# Altium footprint library ecoVENTV_v1.1.PcbLib: 36 footprints (part 2 of 3)
Each footprint in its own frame and in the unit in brackets; x right, y up, seen from the top. Pads: shape width x height; smd on the part's side, far side on the other; paste and mask are expansions set on the pad; w line width, h text height; cw(c..) or ccw(c..) is an arc to the next point about the centre after c.
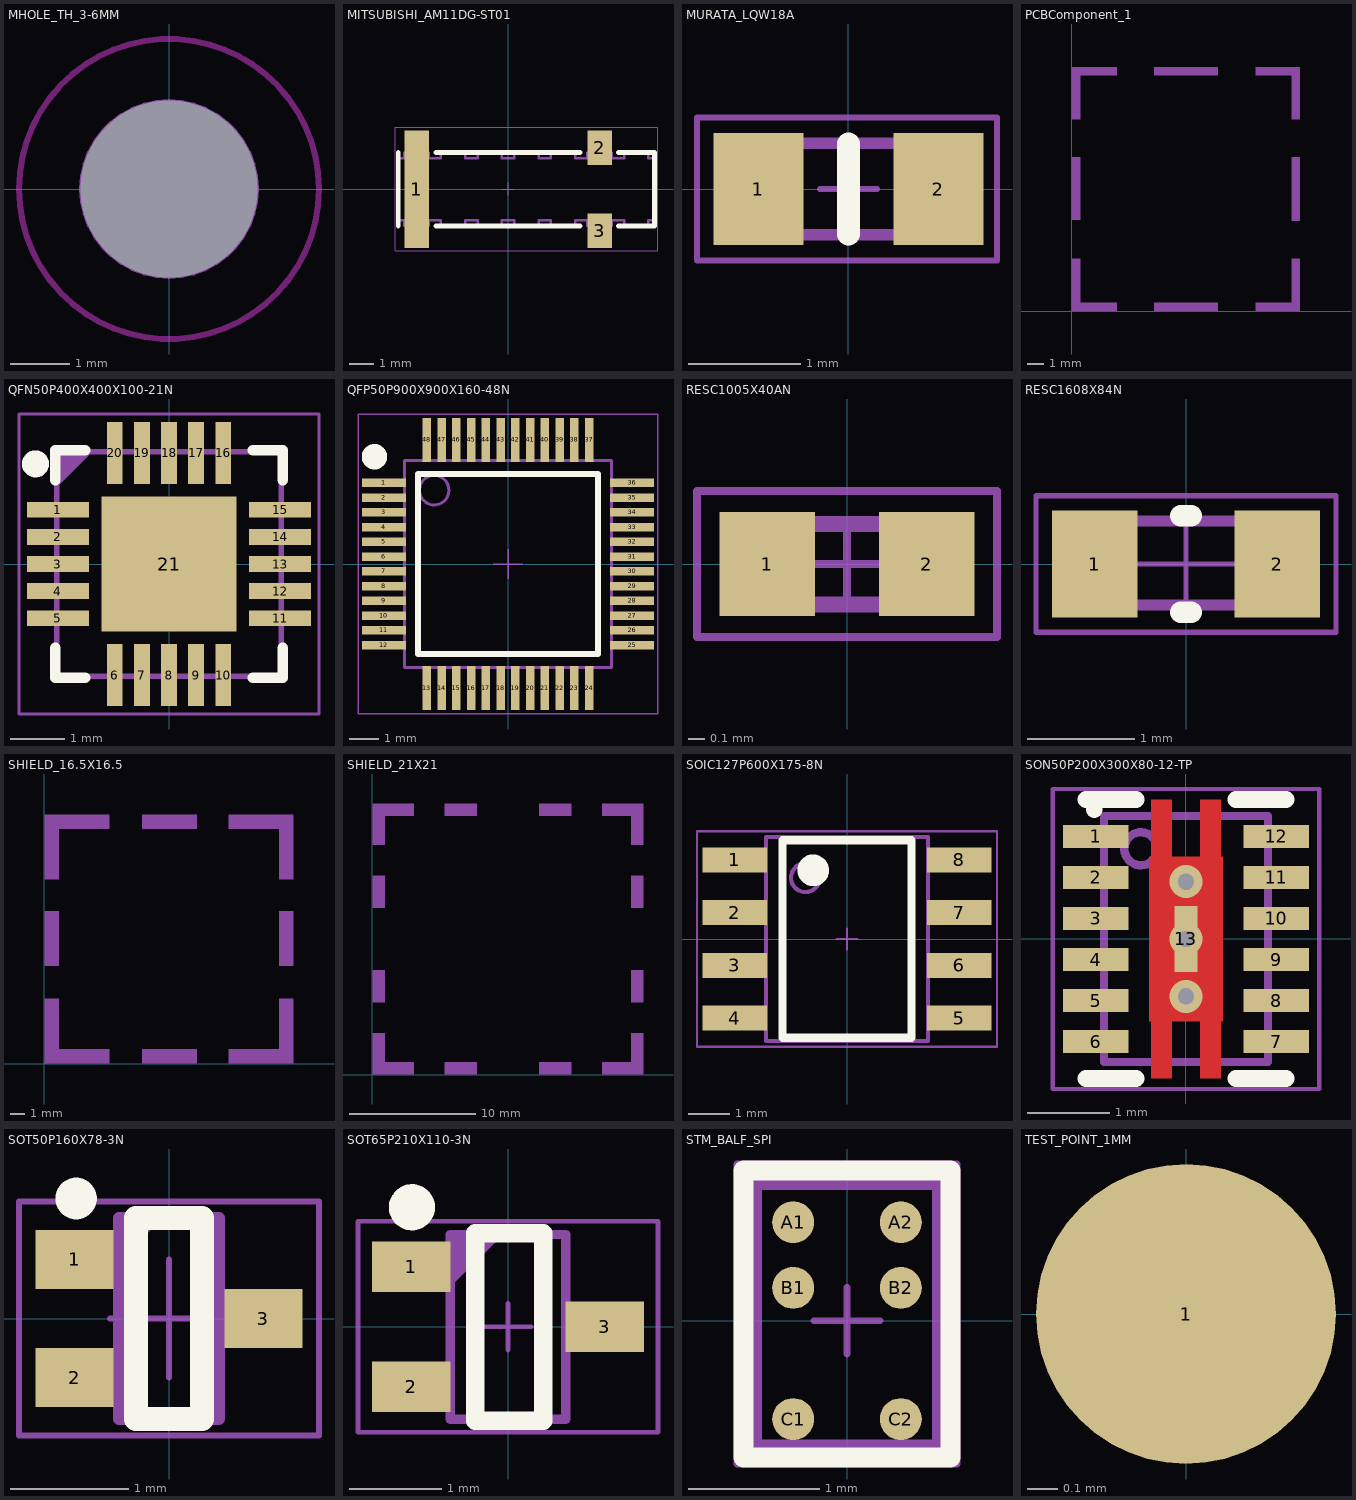
[diagram p1: the footprints below, top view; thin cyan lines are the x and y axes]

## MHOLE_TH_3-6MM [mm]
pads (1):
  round 0 hole 3 unplated mask+0.051: ""(0,0)
Keep-Out Layer:
  circle w0.102: c0,0 r2.545
Mechanical 1:
  circle w0.102: c0,0 r1.473
  text ".Designator" at -0.533,-0.254 h0.51

## MITSUBISHI_AM11DG-ST01 [mm]
height 0.9
pads (3):
  rect 1x4.8 smd mask+0.051: 1(-3.75,0)
  rect 1x1.4 smd mask+0.051: 2(3.75,1.7) 3(3.75,-1.7)
Top Overlay:
  lines w0.203: -4.5,-1.5 -4.5,1.5 ; -2.946,-1.5 2.946,-1.5 ; -2.946,1.5 2.946,1.5 ; 4.521,-1.5 6,-1.5 6,1.5 4.521,1.5
Mechanical 1:
  lines w0.102: -4.5,-1.275 -4.25,-1.275 -4.25,-1.5 -3.25,-1.5 -3.25,-1.275 -2.75,-1.275 -2.75,-1.5 -1.75,-1.5 -1.75,-1.275 -1.25,-1.275 -1.25,-1.5 -0.25,-1.5 -0.25,-1.275 0.25,-1.275 0.25,-1.5 1.25,-1.5 1.25,-1.275 1.75,-1.275 1.75,-1.5 2.75,-1.5 2.75,-1.275 3.25,-1.275 3.25,-1.5 4.25,-1.5 4.25,-1.275 4.75,-1.275 4.75,-1.5 5.75,-1.5 5.75,-1.275 6,-1.275 6,1.275 5.75,1.275 5.75,1.5 4.75,1.5 4.75,1.275 4.25,1.275 4.25,1.5 3.25,1.5 3.25,1.275 2.75,1.275 2.75,1.5 1.75,1.5 1.75,1.275 1.25,1.275 1.25,1.5 0.25,1.5 0.25,1.275 -0.25,1.275 -0.25,1.5 -1.25,1.5 -1.25,1.275 -1.75,1.275 -1.75,1.5 -2.75,1.5 -2.75,1.275 -3.25,1.275 -3.25,1.5 -4.25,1.5 -4.25,1.275 -4.5,1.275 -4.5,-1.275
  text ".Designator" at 0,-0.152 h0.51
Mechanical 15:
  lines w0.051: -0.254,0 0.254,0 ; 0,-0.254 0,0.254 ; -4.627,-2.519 -4.627,2.535 6.143,2.535 6.143,-2.519 -4.627,-2.519
3D body: height 0.6, standoff 0.2, extent -4.5,-1.275 6,1.275
3D body: height 0.8, standoff 0, extent 3.25,-1.5 5.75,1.5
3D body: height 0.8, standoff 0, extent 1.75,-1.5 4.25,1.5
3D body: height 0.8, standoff 0, extent 0.25,-1.5 2.75,1.5
3D body: height 0.8, standoff 0, extent -1.25,-1.5 1.25,1.5
3D body: height 0.8, standoff 0, extent -2.75,-1.5 -0.25,1.5
3D body: height 0.8, standoff 0, extent -4.25,-1.5 -1.75,1.5

## MURATA_LQW18A [mm]
height 1
pads (2):
  rect 0.8x1 smd mask+0.051: 1(-0.8,0) 2(0.8,0)
Top Overlay:
  lines w0.203: 0,-0.4 0,0.4
Mechanical 1:
  lines w0.102: -0.79,-0.406 -0.79,0.406 0.79,0.406 0.79,-0.406 -0.79,-0.406
  text ".Designator" at -0.66,-0.229 h0.51
Mechanical 15:
  lines w0.051: -0.254,0 0.254,0 ; 0,-0.254 0,0.254 ; -1.346,-0.635 -1.346,0.635 1.321,0.635 1.321,-0.635 -1.346,-0.635
3D body: height 0.81, standoff 0, extent -0.8,-0.45 0.8,0.45

## PCBComponent_1 [mm]
Mechanical 5:
  region: 2.66,0 2.66,0.5 0,0.5 0,0
  rectangle: 13.01,0 13.51,3.13
  rectangle: 13.01,5.33 13.51,9.13
  rectangle: 13.01,11.33 13.51,14.46
  region: 2.66,13.96 2.66,14.46 0,14.46 0,13.96
  region: 8.66,13.96 8.66,14.46 4.86,14.46 4.86,13.96
  region: 13.51,13.96 13.51,14.46 10.86,14.46 10.86,13.96
  rectangle: 0,11.33 0.5,14.46
  rectangle: 0,5.388 0.5,9.13
  region: 13.51,0 13.51,0.5 10.86,0.5 10.86,0
  region: 8.66,0 8.66,0.5 4.86,0.5 4.86,0
  rectangle: 0,0 0.5,3.12

## QFN50P400X400X100-21N [mm]
pads (21):
  rect 1.15x0.29 smd mask+0.051: 1(-2.05,1) 2(-2.05,0.5) 3(-2.05,0) 4(-2.05,-0.5) 5(-2.05,-1) 11(2.05,-1) 12(2.05,-0.5) 13(2.05,0) 14(2.05,0.5) 15(2.05,1)
  rect 0.29x1.15 smd mask+0.051: 6(-1,-2.05) 7(-0.5,-2.05) 8(0,-2.05) 9(0.5,-2.05) 10(1,-2.05) 16(1,2.05) 17(0.5,2.05) 18(0,2.05) 19(-0.5,2.05) 20(-1,2.05)
  rect 2.5x2.5 smd mask+0.051: 21(0,0)
Top Overlay:
  circle w0.25: c-2.464,1.849 r0.125
  lines w0.2: -2.1,-1.55 -2.1,-2.1 -1.55,-2.1 ; -2.1,1.55 -2.1,2.1 -1.55,2.1 ; 1.55,-2.1 2.1,-2.1 2.1,-1.55 ; 1.55,2.1 2.1,2.1 2.1,1.55
Top Paste:
  region: -0.75,0.75 0.75,0.75 0.75,-0.75 -0.75,-0.75
Mechanical 1:
  lines w0.102: -2.075,1.475 -1.475,2.075 ; -2.075,1.575 -1.575,2.075 ; -2.075,1.675 -1.675,2.075 ; -2.075,1.775 -1.775,2.075 ; -2.075,1.875 -1.875,2.075 ; -2.075,1.975 -1.975,2.075 ; -2.075,-2.075 -2.075,2.075 2.075,2.075 2.075,-2.075 -2.075,-2.075
  text ".Designator" at -0.556,-0.157 h0.51
Mechanical 15:
  lines w0.05: -0.5,0 0.5,0 ; 0,-0.5 0,0.5 ; -2.769,-2.769 -2.769,2.769 2.769,2.769 2.769,-2.769 -2.769,-2.769
3D body: height 0.78, standoff -0.02, extent -2.01,-2.01 2.01,2.01

## QFP50P900X900X160-48N [mm]
pads (48):
  rect 1.5x0.29 smd mask+0.051: 1(-4.2,2.75) 2(-4.2,2.25) 3(-4.2,1.75) 4(-4.2,1.25) 5(-4.2,0.75) 6(-4.2,0.25) 7(-4.2,-0.25) 8(-4.2,-0.75) 9(-4.2,-1.25) 10(-4.2,-1.75) 11(-4.2,-2.25) 12(-4.2,-2.75) 25(4.2,-2.75) 26(4.2,-2.25) 27(4.2,-1.75) 28(4.2,-1.25) 29(4.2,-0.75) 30(4.2,-0.25) 31(4.2,0.25) 32(4.2,0.75) 33(4.2,1.25) 34(4.2,1.75) 35(4.2,2.25) 36(4.2,2.75)
  rect 0.29x1.5 smd mask+0.051: 13(-2.75,-4.2) 14(-2.25,-4.2) 15(-1.75,-4.2) 16(-1.25,-4.2) 17(-0.75,-4.2) 18(-0.25,-4.2) 19(0.25,-4.2) 20(0.75,-4.2) 21(1.25,-4.2) 22(1.75,-4.2) 23(2.25,-4.2) 24(2.75,-4.2) 37(2.75,4.2) 38(2.25,4.2) 39(1.75,4.2) 40(1.25,4.2) 41(0.75,4.2) 42(0.25,4.2) 43(-0.25,4.2) 44(-0.75,4.2) 45(-1.25,4.2) 46(-1.75,4.2) 47(-2.25,4.2) 48(-2.75,4.2)
Top Overlay:
  circle w0.508: c-4.521,3.632 r0.177
  lines w0.2: -3.05,-3.05 3.05,-3.05 3.05,3.05 -3.05,3.05 -3.05,-3.05
Mechanical 1:
  circle w0.102: c-2.5,2.5 r0.5
  lines w0.102: -3.5,-3.5 3.5,-3.5 3.5,3.5 -3.5,3.5 -3.5,-3.5
  text ".Designator" at -0.508,-0.076 h0.51
Mechanical 15:
  lines w0.05: -0.5,0 0.5,0 ; 0,-0.5 0,0.5 ; -5.08,-5.08 5.08,-5.08 5.08,5.08 -5.08,5.08 -5.08,-5.08
3D body: height 1.5, standoff 0, extent -4.5,-4.5 4.5,4.5

## RESC1005X40AN [mm]
pads (2):
  rect 0.6x0.65 smd mask+0.051: 1(-0.5,0) 2(0.5,0)
Mechanical 1:
  lines w0.102: -0.5,-0.254 -0.5,0.25 0.5,0.25 0.5,-0.254 -0.5,-0.254
  text ".Designator" at -0.356,-0.102 h0.25
Mechanical 15:
  lines w0.051: -0.25,0 0.25,0 ; 0,-0.25 0,0.25 ; -0.94,-0.457 -0.94,0.457 0.94,0.457 0.94,-0.457 -0.94,-0.457
3D body: height 0.35, standoff 0, extent -0.5,-0.25 0.5,0.25

## RESC1608X84N [mm]
pads (2):
  rect 0.8x1 smd mask+0.051: 1(-0.85,0) 2(0.85,0)
Top Overlay:
  lines w0.2: -0.05,-0.45 0.05,-0.45 ; -0.05,0.45 0.05,0.45
Mechanical 1:
  lines w0.102: -0.787,-0.381 -0.787,0.4 0.813,0.4 0.813,-0.381 -0.787,-0.381
  text ".Designator" at -0.635,-0.229 h0.51
Mechanical 15:
  lines w0.051: -0.5,0 0.5,0 ; 0,-0.5 0,0.5 ; -1.397,-0.635 -1.397,0.635 1.397,0.635 1.397,-0.635 -1.397,-0.635
3D body: height 0.45, standoff 0, extent -0.8,-0.4 0.8,0.4

## SHIELD_16.5X16.5 [mm]
Mechanical 5:
  region: 6.75,17.25 6.75,16.25 10.55,16.25 10.55,17.25
  region: 0,17.25 0,16.25 4.5,16.25 4.5,17.25
  region: 17.25,16.25 17.25,17.25 12.75,17.25 12.75,16.25
  rectangle: 16.25,6.75 17.25,10.55
  rectangle: 16.25,0 17.25,4.5
  region: 17.25,17.25 16.25,17.25 16.25,12.75 17.25,12.75
  rectangle: 0,6.75 1,10.55
  rectangle: 0,0 1,4.5
  region: 1,17.25 0,17.25 0,12.75 1,12.75
  region: 17.25,0 17.25,1 12.75,1 12.75,0
  region: 0,1 0,0 4.5,0 4.5,1
  region: 6.75,1 6.75,0 10.55,0 10.55,1

## SHIELD_21X21 [mm]
Mechanical 5:
  rectangle: 0,0 1,3.3
  region: 3.3,0 3.3,1 0,1 0,0
  region: 21.5,3.3 20.5,3.3 20.5,0 21.5,0
  region: 21.5,0 21.5,1 18.2,1 18.2,0
  region: 0,21.5 0,20.5 3.3,20.5 3.3,21.5
  rectangle: 0,18.2 1,21.5
  region: 18.2,21.5 18.2,20.5 21.5,20.5 21.5,21.5
  region: 21.5,21.5 20.5,21.5 20.5,18.2 21.5,18.2
  rectangle: 0,5.7 1,8.3
  rectangle: 0,13.2 1,15.8
  rectangle: 20.5,13.2 21.5,15.8
  rectangle: 20.5,5.7 21.5,8.3
  region: 5.7,1 5.7,0 8.3,0 8.3,1
  region: 13.2,1 13.2,0 15.8,0 15.8,1
  region: 13.2,21.5 13.2,20.5 15.8,20.5 15.8,21.5
  region: 5.7,21.5 5.7,20.5 8.3,20.5 8.3,21.5

## SOIC127P600X175-8N [mm]
pads (8):
  rect 1.55x0.6 smd mask+0.051: 1(-2.7,1.905) 2(-2.7,0.635) 3(-2.7,-0.635) 4(-2.7,-1.905) 5(2.7,-1.905) 6(2.7,-0.635) 7(2.7,0.635) 8(2.7,1.905)
Top Overlay:
  circle w0.508: c-0.813,1.651 r0.127
  lines w0.2: -1.55,-2.375 1.55,-2.375 1.55,2.375 -1.55,2.375 -1.55,-2.375
Mechanical 1:
  circle w0.102: c-1,1.475 r0.346
  lines w0.102: -1.95,-2.45 1.95,-2.45 1.95,2.45 -1.95,2.45 -1.95,-2.45
  text ".Designator" at -0.914,-0.127 h0.51
Mechanical 15:
  lines w0.051: -0.254,0 0.254,0 ; 0,-0.254 0,0.254 ; -3.607,-2.591 3.607,-2.591 3.607,2.591 -3.607,2.591 -3.607,-2.591
3D body: height 1.75, standoff 0, extent -3,-2.45 3,2.45

## SON50P200X300X80-12-TP [mm]
height 0.8
pads (13):
  rect 0.8x0.28 smd mask+0.051: 1(-1.1,1.25) 2(-1.1,0.75) 3(-1.1,0.25) 4(-1.1,-0.25) 5(-1.1,-0.75) 6(-1.1,-1.25) 7(1.1,-1.25) 8(1.1,-0.75) 9(1.1,-0.25) 10(1.1,0.25) 11(1.1,0.75) 12(1.1,1.25)
  rect 0.28x0.8 smd mask+0.051: 13(0,0)
via 0,0 diameter 0.4 hole 0.2
via 0,-0.7 diameter 0.4 hole 0.2
via 0,0.7 diameter 0.4 hole 0.2
Top Layer:
  region: -0.45,1 -0.45,-1 -0.425,-1 -0.425,-1.7 -0.175,-1.7 -0.175,-1 0.175,-1 0.175,-1.7 0.425,-1.7 0.425,-1 0.45,-1 0.45,1 0.425,1 0.425,1.7 0.175,1.7 0.175,1 -0.175,1 -0.175,1.7 -0.425,1.7 -0.425,1
Top Overlay:
  lines w0.203: -1.219,-1.702 -0.61,-1.702 ; -1.219,1.702 -0.61,1.702 ; -1.118,1.575 -1.118,1.702 ; 0.61,-1.702 1.219,-1.702 ; 0.61,1.702 1.219,1.702
Top Paste:
  region: -0.35,0.8 -0.35,-0.8 0.35,-0.8 0.35,0.8
  region: 0.175,-1.1 0.175,-1.7 0.425,-1.7 0.425,-1.1
  region: -0.425,-1.1 -0.425,-1.7 -0.175,-1.7 -0.175,-1.1
  region: 0.175,1.7 0.175,1.1 0.425,1.1 0.425,1.7
  region: -0.425,1.7 -0.425,1.1 -0.175,1.1 -0.175,1.7
Mechanical 1:
  circle w0.102: c-0.55,1.1 r0.202
  lines w0.102: -1,-1.5 1,-1.5 1,1.5 -1,1.5 -1,-1.5
  text ".Designator" at 0.338,0.742 h0.51
Mechanical 15:
  lines w0.051: -0.254,0 0.254,0 ; 0,-0.254 0,0.254 ; -1.626,-1.829 1.626,-1.829 1.626,1.829 -1.626,1.829 -1.626,-1.829
3D body: height 0.8, standoff 0, extent -1,-1.5 1,1.5
3D body: height 0.81, standoff 0, extent -0.86,1.044 -0.561,1.344

## SOT50P160X78-3N [mm]
height 0.78
pads (3):
  rect 0.66x0.5 smd mask+0.051: 1(-0.8,0.5) 2(-0.8,-0.5) 3(0.8,0)
Top Overlay:
  circle w0.25: c-0.787,1.016 r0.051
  lines w0.203: -0.279,-0.85 0.279,-0.85 0.279,0.85 -0.279,0.85 -0.279,-0.85
Mechanical 1:
  lines w0.102: -0.425,0.55 -0.125,0.85 ; -0.425,0.65 -0.225,0.85 ; -0.425,0.75 -0.325,0.85 ; -0.425,-0.85 -0.425,0.85 0.425,0.85 0.425,-0.85 -0.425,-0.85
  text ".Designator" at -0.254,0.559 h0.51
Mechanical 15:
  lines w0.05: -0.5,0 0.5,0 ; 0,-0.5 0,0.5 ; -1.27,-0.991 -1.27,0.991 1.27,0.991 1.27,-0.991 -1.27,-0.991
3D body: height 0.78, standoff 0, extent -0.85,-0.85 0.85,0.85

## SOT65P210X110-3N [mm]
height 1.25
pads (3):
  rect 0.85x0.55 smd: 1(-1.05,0.65) 2(-1.05,-0.65) 3(1.05,0)
Top Overlay:
  circle w0.25: c-1.041,1.295 r0.125
  lines w0.2: -0.356,-1.016 -0.356,1.016 0.381,1.016 0.381,-1.016 -0.356,-1.016
Mechanical 1:
  lines w0.102: -0.625,0.5 -0.125,1 ; -0.625,0.6 -0.225,1 ; -0.625,0.7 -0.325,1 ; -0.625,0.8 -0.425,1 ; -0.625,0.9 -0.525,1 ; -0.625,-1 -0.625,1 0.625,1 0.625,-1 -0.625,-1
  text ".Designator" at -0.15,0.4 h0.51
Mechanical 15:
  lines w0.05: -0.254,0 0.254,0 ; 0,-0.254 0,0.254 ; -1.626,-1.143 -1.626,1.143 1.626,1.143 1.626,-1.143 -1.626,-1.143
3D body: height 1.1, standoff 0, extent -1.123,-1.1 1.123,1.1

## STM_BALF_SPI [mm]
height 0.65
pads (6):
  round 0.32 smd paste-0.32 mask-0.05: A1(-0.41,0.75) A2(0.41,0.75) B1(-0.41,0.25) B2(0.41,0.25) C1(-0.41,-0.75) C2(0.41,-0.75)
Top Overlay:
  lines w0.152: -0.787,-1.041 -0.787,1.143 0.787,1.143 0.787,-1.041 -0.787,-1.041
Top Paste:
  rectangle: 0.3,-0.86 0.52,-0.64
  rectangle: -0.52,-0.86 -0.3,-0.64
  rectangle: -0.52,0.14 -0.3,0.36
  rectangle: 0.3,0.14 0.52,0.36
  rectangle: 0.3,0.64 0.52,0.86
  rectangle: -0.52,0.64 -0.3,0.86
Mechanical 1:
  circle w0.2: c-0.41,0.75 r0.056
  lines w0.102: -0.7,-0.955 0.7,-0.955 0.7,1.045 -0.7,1.045 -0.7,-0.955
  text ".Designator" at -0.083,0.794 h0.51
Mechanical 15:
  lines w0.051: -0.254,0 0.254,0 ; 0,-0.254 0,0.254 ; -0.838,-1.092 0.838,-1.092 0.838,1.194 -0.838,1.194 -0.838,-1.092
3D body: height 0.65, standoff 0.2, extent -0.7,-0.955 0.7,1.045
3D body: height 0.24, standoff -0.01, extent 0.286,-0.874 0.535,-0.626
3D body: height 0.24, standoff -0.01, extent -0.534,-0.874 -0.285,-0.626
3D body: height 0.24, standoff -0.01, extent -0.534,0.126 -0.285,0.374
3D body: height 0.24, standoff -0.01, extent 0.286,0.126 0.535,0.374
3D body: height 0.24, standoff -0.01, extent 0.286,0.626 0.535,0.874
3D body: height 0.24, standoff -0.01, extent -0.534,0.626 -0.285,0.874
3D body: height 0.66, standoff 0.6, extent -0.534,0.625 -0.285,0.875

## TEST_POINT_1MM [mm]
pads (1):
  round 1 smd paste-1: 1(0,0)
3D body: height 0.1, standoff 0, extent -0.496,-0.499 0.5,0.499